# Altium schematic symbol library Key.SchLib: 12 symbols
Pins are listed as number, name and electrical type; pins without a type are passive.

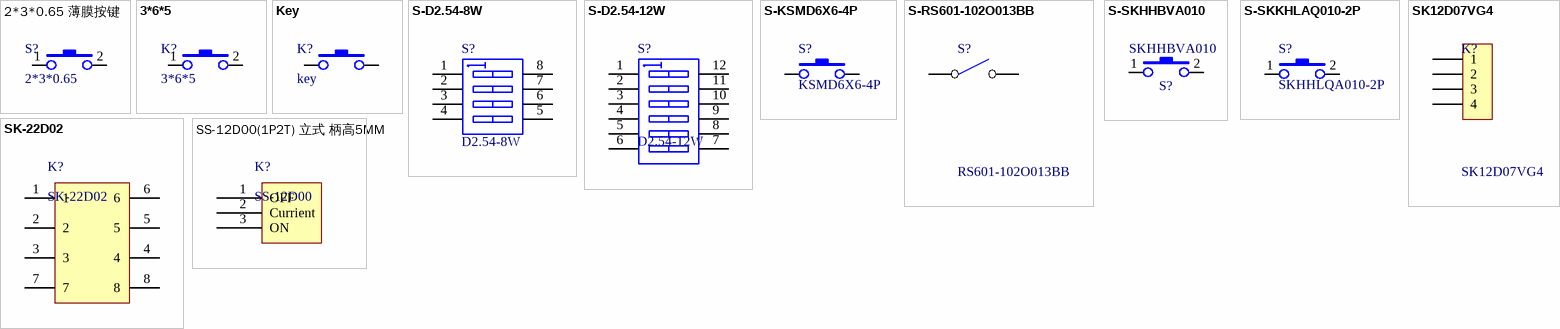
[diagram p0: symbols 2*3*0.65 薄膜按键 to SS-12D00(1P2T) 立式 柄高5MM]

## 2*3*0.65 薄膜按键
designator S?, comment 2*3*0.65
薄膜按键
footprint S-K2*3 - duplicate (Precision Wire Wound Inductor, 2-Leads, Body 3.00x2.00mm, IPC Medium Density)
pins: 1, 2

## 3*6*5
designator K?
贴片-卧式轻触开关
footprint S-K3*6 (Footprint not found)
pins: 1, 2

## Key
designator K?, comment key
pins: 1, 2

## S-D2.54-8W
designator S?, comment D2.54-8W
拨码开关; 规格型号: 直插 2.54间距 宽体 8P; 货品编码: 382002; 备注: *; 生产商: *; 供应商: *
footprint D2.54-8W (DIP8W)
pins: 1 A1, 2 A2, 3 A3, 4 A4, 5 B4, 6 B3, 7 B2, 8 B1

## S-D2.54-12W
designator S?, comment D2.54-12W
拨码开关; 规格型号: 直插 2.54间距 宽体 12P; 货品编码: 样品无编码; 备注: *; 生产商: *; 供应商: *
footprint D2.54-12W (DIP12W)
pins: 1 A1, 2 A2, 3 A3, 4 A4, 5 B4, 6 B3, 7 B2, 8 B1, 9, 10, 11, 12

## S-KSMD6X6-4P
designator S?, comment KSMD6X6-4P
轻触按键; 货品编码: 232013; 规格型号: 6x6 SMD贴片按键; 备注: *; 供应商: *; 生产商: *
footprint K_SMD (6mmX6mm)
pins: 1, 2

## S-RS601-102O013BB
designator S?, comment RS601-102O013BB
船形开关; 生产商: LECI; 货品编码: 225011; 规格型号: RS601-102O013BB; 备注: *; 供应商: *
footprint RS601-102O013BB
pins: 1, 2

## S-SKHHBVA010
designator S?, comment SKHHBVA010
轻触按键; 生产商: 阿尔卑斯; 规格型号: S-SKHHBVA010 Tact Switch; 货品编码: 样品无编码; 备注: *; 供应商: *
footprint S-SKHHBVA010
pins: 1, 2

## S-SKKHLAQ010-2P
designator S?, comment SKHHLQA010-2P
轻触按键; 生产商: 阿尔卑斯; 货品编码: 样品无编码; 备注: *; 供应商: *
footprint S-SKHHLQA010 (Footprint not found)
footprint S-SKHHLQA010
pins: 1, 2

## SK12D07VG4
designator K?
拨动开关; 规格型号: SK12D07VG4; 备注: *; 供应商: *
footprint K-SK12D07VG4
pins: 1, 2, 3, 4

## SK-22D02
designator K?
波动开关-2档6脚
footprint SK-22D02 (2档6脚)
pins: 1, 2, 3, 4, 5, 6, 7, 8

## SS-12D00(1P2T) 立式 柄高5MM
designator K?, comment SS-12D00
footprint SS-12D00 (SS-12D00(1P2T) 立式 柄高5MM)
pins: 1 OFF, 2 Currient, 3 ON